# Altium schematic symbol library CG0603MLC-05E.SchLib: 1 symbol
Pins are listed as number, name and electrical type; pins without a type are passive.

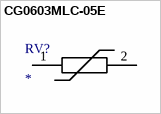
[diagram p0: symbol CG0603MLC-05E]

## CG0603MLC-05E
designator RV?
Varistor; Manufacturer_Name: Bourns; Manufacturer_Part_Number: CG0603MLC-05E; Allied_Number: 70153503; Datasheet Link: http://www.farnell.com/datasheets/1785244.pdf; Height: 0.55mm; Mouser Part Number: 652-CG0603MLC-05E; Mouser Price/Stock: https://www.mouser.com/Search/Refine.aspx?Keyword=652-CG0603MLC-05E; RS Part Number: 1814489; RS Price/Stock: http://uk.rs-online.com/web/p/products/1814489; Allied Price/Stock: https://www.alliedelec.com/bourns-cg0603mlc-05e/70153503/
footprint VARC1608X55N
pins: 1, 2